# Altium integrated library Free Documents.IntLib: 7 symbols
Pins are listed as number, name and electrical type; pins without a type are passive.

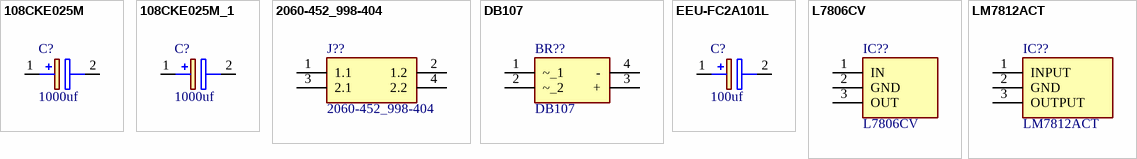
[diagram p0: symbols 108CKE025M to LM7812ACT]

## 108CKE025M
designator C?, comment 1000uf
Capacitor Polarised; Manufacturer_Name: Cinch Connectivity Solutions; Manufacturer_Part_Number: 108CKE025M; Datasheet Link: https://componentsearchengine.com/Datasheets/2/108CKE025M.pdf; Height: 21.5mm
footprint CAPPRD550W60D1050H2150
pins: 1 +, 2 -

## 108CKE025M_1
designator C?, comment 1000uf
Capacitor Polarised; Manufacturer_Name: Cinch Connectivity Solutions; Manufacturer_Part_Number: 108CKE025M; Datasheet Link: https://componentsearchengine.com/Datasheets/2/108CKE025M.pdf; Height: 21.5mm
footprint CAPPRD550W60D1050H2150
pins: 1 +, 2 -

## 2060-452_998-404
designator J??
Connector; Manufacturer_Name: Wago; Manufacturer_Part_Number: 2060-452/998-404; Datasheet Link: https://www.wago.com/2060-452/998-404; Height: 4.5mm; Arrow Part Number: 2060-452/998-404; Arrow Price/Stock: https://www.arrow.com/en/products/2060-452998-404/wago-kontakttechnik-gmbh?region=nac
footprint 2060452998404
pins: 1 1.1, 2 1.2, 3 2.1, 4 2.2

## DB107
designator BR??
Bridge Rectifier; Manufacturer_Name: Rectron; Datasheet Link: https://www.rectron.com/data_sheets/db101-107.pdf; Height: 3.4mm; Manufacturer_Part_Number: DB107; Mouser Part Number: 583-DB107; Mouser Price/Stock: https://www.mouser.co.uk/ProductDetail/Rectron/DB107?qs=G5AQjGfRJcLGAY%252B6bEDnbw%3D%3D
footprint DIP825W50P510L830H340Q4N
pins: 1 ~_1, 2 ~_2, 3 +, 4 -

## EEU-FC2A101L
designator C?, comment 100uf
Capacitor Polarised; Manufacturer_Name: Panasonic; Manufacturer_Part_Number: EEU-FC2A101L; Datasheet Link: http://industrial.panasonic.com/cdbs/www-data/pdf/RDF0000/ABA0000C1209.pdf; Height: 32mm; Mouser Part Number: 667-EEU-FC2A101L; Mouser Price/Stock: https://www.mouser.co.uk/ProductDetail/Panasonic/EEU-FC2A101L?qs=MtOUKumLmnYYrYsMGpDvcw%3D%3D; Arrow Part Number: EEU-FC2A101L; Arrow Price/Stock: https://www.arrow.com/en/products/eeu-fc2a101l/panasonic?region=nac
footprint CAPPRD500W65D1000H3200
pins: 1 +, 2 -

## L7806CV
designator IC??
Integrated Circuit; Manufacturer_Name: STMicroelectronics; Datasheet Link: http://www.st.com/web/en/resource/technical/document/datasheet/CD00000444.pdf; Height: 4.6mm; Manufacturer_Part_Number: L7806CV; Mouser Part Number: 511-L7806CV; Mouser Price/Stock: https://www.mouser.co.uk/ProductDetail/STMicroelectronics/L7806CV?qs=K4DpzJ20gDEC%252BHE13eVUwg%3D%3D; Arrow Part Number: L7806CV; Arrow Price/Stock: https://www.arrow.com/en/products/l7806cv/stmicroelectronics?region=europe
footprint TO270P460X1020X2008-3P
pins: 1 IN (power), 2 GND (power), 3 OUT (power)

## LM7812ACT
designator IC??
Integrated Circuit; Manufacturer_Name: onsemi; Datasheet Link: https://datasheet.datasheetarchive.com/originals/distributors/Datasheets_SAMA/704b005d7d2d9ced5864f40b6609c1bc.pdf; Height: 4.7mm; Manufacturer_Part_Number: LM7812ACT; Mouser Part Number: 512-LM7812ACT; Mouser Price/Stock: https://www.mouser.com/Search/Refine.aspx?Keyword=512-LM7812ACT; Arrow Part Number: LM7812ACT; Arrow Price/Stock: https://www.arrow.com/en/products/lm7812act/on-semiconductor
footprint TO254P470X1016X2019-3P
pins: 1 INPUT, 2 GND, 3 OUTPUT